# Altium schematic symbol library SCH - MCU - STM32 - ST MICROELECTRONICS STM32WB55VYYX WLCSP100.SchLib: 1 symbol
Pins are listed as number, name and electrical type; pins without a type are passive.

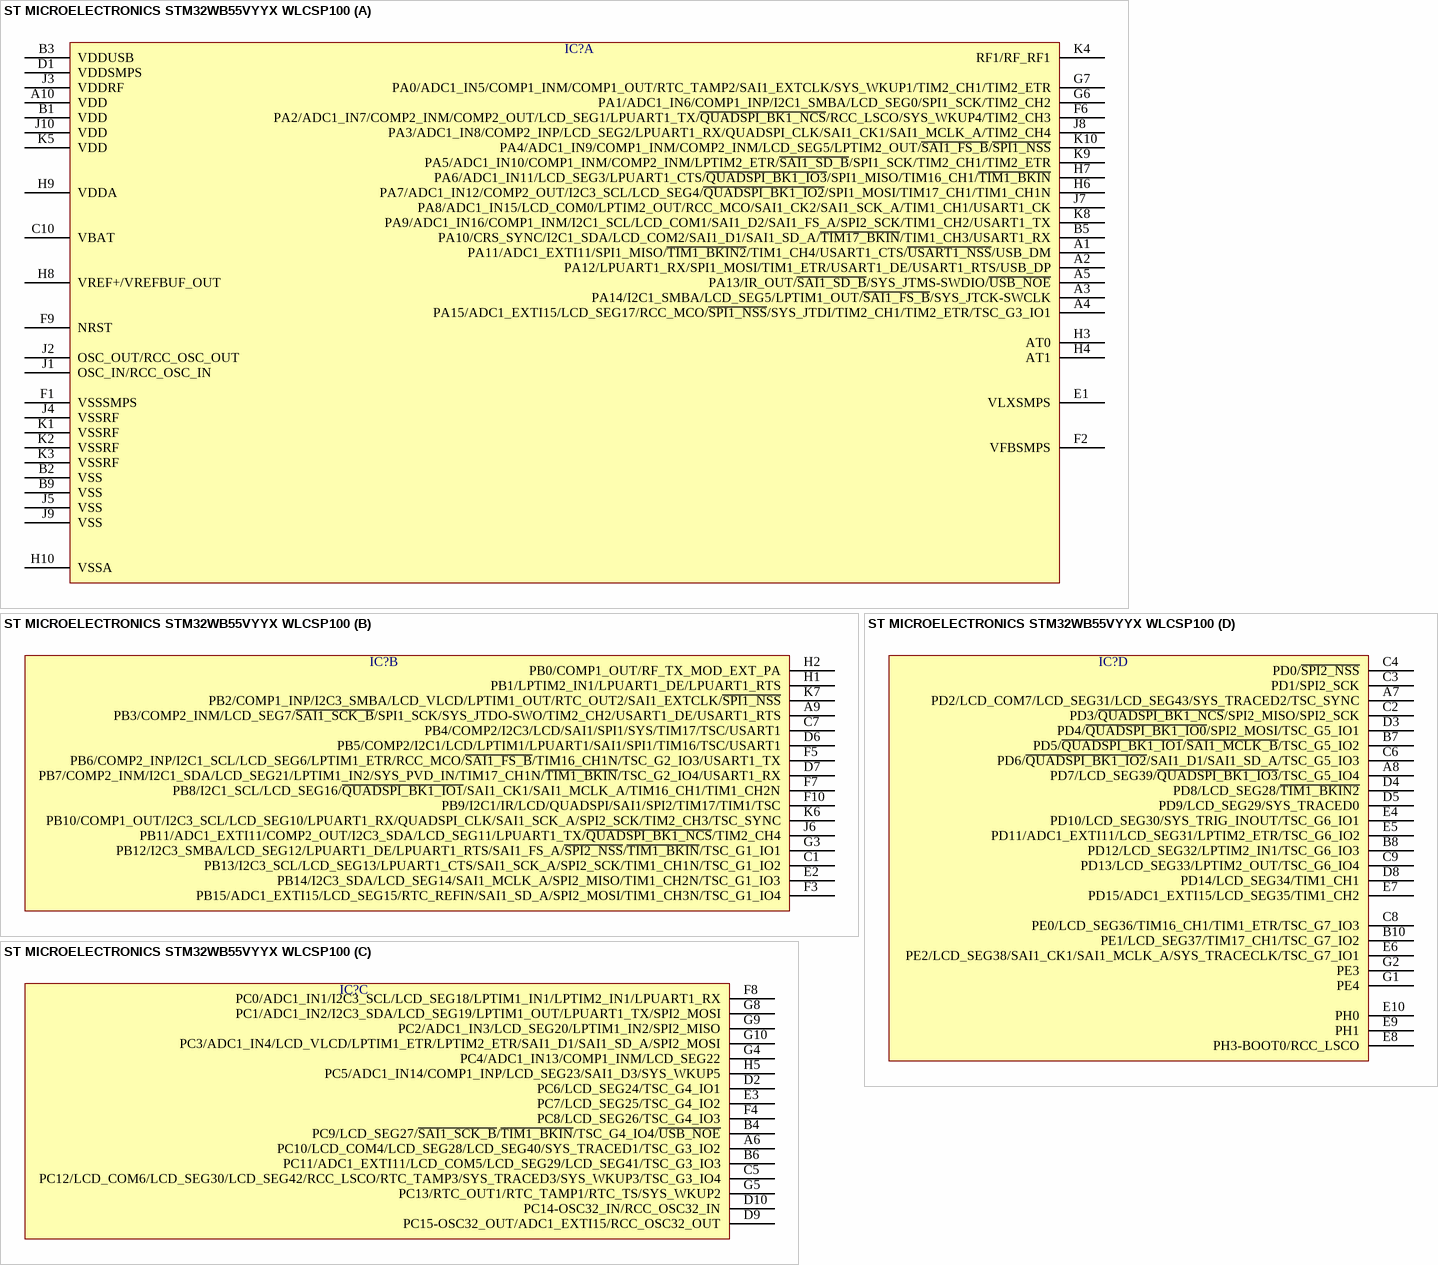
[diagram p0: symbol ST MICROELECTRONICS STM32WB55VYYX WLCSP100]

## ST MICROELECTRONICS STM32WB55VYYX WLCSP100
designator IC?  (value not drawn)
part A pins: A1 PA11/ADC1_EXTI11/SPI1_MISO/~{TIM1_BKIN2}/TIM1_CH4/USART1_CTS/~{USART1_NSS}/USB_DM, A2 PA12/LPUART1_RX/SPI1_MOSI/TIM1_ETR/USART1_DE/USART1_RTS/USB_DP, A3 PA14/I2C1_SMBA/LCD_SEG5/LPTIM1_OUT/~{SAI1_FS_B}/SYS_JTCK-SWCLK, A4 PA15/ADC1_EXTI15/LCD_SEG17/RCC_MCO/~{SPI1_NSS}/SYS_JTDI/TIM2_CH1/TIM2_ETR/TSC_G3_IO1, A5 PA13/IR_OUT/~{SAI1_SD_B}/SYS_JTMS-SWDIO/~{USB_NOE}, A10 VDD, B1 VDD, B2 VSS, B3 VDDUSB, B5 PA10/CRS_SYNC/I2C1_SDA/LCD_COM2/SAI1_D1/SAI1_SD_A/~{TIM17_BKIN}/TIM1_CH3/USART1_RX, B9 VSS, C10 VBAT, D1 VDDSMPS, E1 VLXSMPS, F1 VSSSMPS, F2 VFBSMPS, F6 PA2/ADC1_IN7/COMP2_INM/COMP2_OUT/LCD_SEG1/LPUART1_TX/~{QUADSPI_BK1_NCS}/RCC_LSCO/SYS_WKUP4/TIM2_CH3, F9 NRST, G6 PA1/ADC1_IN6/COMP1_INP/I2C1_SMBA/LCD_SEG0/SPI1_SCK/TIM2_CH2, G7 PA0/ADC1_IN5/COMP1_INM/COMP1_OUT/RTC_TAMP2/SAI1_EXTCLK/SYS_WKUP1/TIM2_CH1/TIM2_ETR, H3 AT0, H4 AT1, H6 PA7/ADC1_IN12/COMP2_OUT/I2C3_SCL/LCD_SEG4/~{QUADSPI_BK1_IO2}/SPI1_MOSI/TIM17_CH1/TIM1_CH1N, H7 PA6/ADC1_IN11/LCD_SEG3/LPUART1_CTS/~{QUADSPI_BK1_IO3}/SPI1_MISO/TIM16_CH1/~{TIM1_BKIN}, H8 VREF+/VREFBUF_OUT, H9 VDDA, H10 VSSA, J1 OSC_IN/RCC_OSC_IN, J2 OSC_OUT/RCC_OSC_OUT, J3 VDDRF, J4 VSSRF, J5 VSS, J7 PA8/ADC1_IN15/LCD_COM0/LPTIM2_OUT/RCC_MCO/SAI1_CK2/SAI1_SCK_A/TIM1_CH1/USART1_CK, J8 PA3/ADC1_IN8/COMP2_INP/LCD_SEG2/LPUART1_RX/QUADSPI_CLK/SAI1_CK1/SAI1_MCLK_A/TIM2_CH4, J9 VSS, J10 VDD, K1 VSSRF, K2 VSSRF, K3 VSSRF, K4 RF1/RF_RF1, K5 VDD, K8 PA9/ADC1_IN16/COMP1_INM/I2C1_SCL/LCD_COM1/SAI1_D2/SAI1_FS_A/SPI2_SCK/TIM1_CH2/USART1_TX, K9 PA5/ADC1_IN10/COMP1_INM/COMP2_INM/LPTIM2_ETR/~{SAI1_SD_B}/SPI1_SCK/TIM2_CH1/TIM2_ETR, K10 PA4/ADC1_IN9/COMP1_INM/COMP2_INM/LCD_SEG5/LPTIM2_OUT/~{SAI1_FS_B}/~{SPI1_NSS}
part B pins: A9 PB3/COMP2_INM/LCD_SEG7/~{SAI1_SCK_B}/SPI1_SCK/SYS_JTDO-SWO/TIM2_CH2/USART1_DE/USART1_RTS, C1 PB13/I2C3_SCL/LCD_SEG13/LPUART1_CTS/SAI1_SCK_A/SPI2_SCK/TIM1_CH1N/TSC_G1_IO2, C7 PB4/COMP2/I2C3/LCD/SAI1/SPI1/SYS/TIM17/TSC/USART1, D6 PB5/COMP2/I2C1/LCD/LPTIM1/LPUART1/SAI1/SPI1/TIM16/TSC/USART1, D7 PB7/COMP2_INM/I2C1_SDA/LCD_SEG21/LPTIM1_IN2/SYS_PVD_IN/TIM17_CH1N/~{TIM1_BKIN}/TSC_G2_IO4/USART1_RX, E2 PB14/I2C3_SDA/LCD_SEG14/SAI1_MCLK_A/SPI2_MISO/TIM1_CH2N/TSC_G1_IO3, F3 PB15/ADC1_EXTI15/LCD_SEG15/RTC_REFIN/SAI1_SD_A/SPI2_MOSI/TIM1_CH3N/TSC_G1_IO4, F5 PB6/COMP2_INP/I2C1_SCL/LCD_SEG6/LPTIM1_ETR/RCC_MCO/~{SAI1_FS_B}/TIM16_CH1N/TSC_G2_IO3/USART1_TX, F7 PB8/I2C1_SCL/LCD_SEG16/~{QUADSPI_BK1_IO1}/SAI1_CK1/SAI1_MCLK_A/TIM16_CH1/TIM1_CH2N, F10 PB9/I2C1/IR/LCD/QUADSPI/SAI1/SPI2/TIM17/TIM1/TSC, G3 PB12/I2C3_SMBA/LCD_SEG12/LPUART1_DE/LPUART1_RTS/SAI1_FS_A/~{SPI2_NSS}/~{TIM1_BKIN}/TSC_G1_IO1, H1 PB1/LPTIM2_IN1/LPUART1_DE/LPUART1_RTS, H2 PB0/COMP1_OUT/RF_TX_MOD_EXT_PA, J6 PB11/ADC1_EXTI11/COMP2_OUT/I2C3_SDA/LCD_SEG11/LPUART1_TX/~{QUADSPI_BK1_NCS}/TIM2_CH4, K6 PB10/COMP1_OUT/I2C3_SCL/LCD_SEG10/LPUART1_RX/QUADSPI_CLK/SAI1_SCK_A/SPI2_SCK/TIM2_CH3/TSC_SYNC, K7 PB2/COMP1_INP/I2C3_SMBA/LCD_VLCD/LPTIM1_OUT/RTC_OUT2/SAI1_EXTCLK/~{SPI1_NSS}
part C pins: A6 PC10/LCD_COM4/LCD_SEG28/LCD_SEG40/SYS_TRACED1/TSC_G3_IO2, B4 PC9/LCD_SEG27/~{SAI1_SCK_B}/~{TIM1_BKIN}/TSC_G4_IO4/~{USB_NOE}, B6 PC11/ADC1_EXTI11/LCD_COM5/LCD_SEG29/LCD_SEG41/TSC_G3_IO3, C5 PC12/LCD_COM6/LCD_SEG30/LCD_SEG42/RCC_LSCO/RTC_TAMP3/SYS_TRACED3/SYS_WKUP3/TSC_G3_IO4, D2 PC6/LCD_SEG24/TSC_G4_IO1, D9 PC15-OSC32_OUT/ADC1_EXTI15/RCC_OSC32_OUT, D10 PC14-OSC32_IN/RCC_OSC32_IN, E3 PC7/LCD_SEG25/TSC_G4_IO2, F4 PC8/LCD_SEG26/TSC_G4_IO3, F8 PC0/ADC1_IN1/I2C3_SCL/LCD_SEG18/LPTIM1_IN1/LPTIM2_IN1/LPUART1_RX, G4 PC4/ADC1_IN13/COMP1_INM/LCD_SEG22, G5 PC13/RTC_OUT1/RTC_TAMP1/RTC_TS/SYS_WKUP2, G8 PC1/ADC1_IN2/I2C3_SDA/LCD_SEG19/LPTIM1_OUT/LPUART1_TX/SPI2_MOSI, G9 PC2/ADC1_IN3/LCD_SEG20/LPTIM1_IN2/SPI2_MISO, G10 PC3/ADC1_IN4/LCD_VLCD/LPTIM1_ETR/LPTIM2_ETR/SAI1_D1/SAI1_SD_A/SPI2_MOSI, H5 PC5/ADC1_IN14/COMP1_INP/LCD_SEG23/SAI1_D3/SYS_WKUP5
part D pins: A7 PD2/LCD_COM7/LCD_SEG31/LCD_SEG43/SYS_TRACED2/TSC_SYNC, A8 PD7/LCD_SEG39/~{QUADSPI_BK1_IO3}/TSC_G5_IO4, B7 PD5/~{QUADSPI_BK1_IO1}/~{SAI1_MCLK_B}/TSC_G5_IO2, B8 PD12/LCD_SEG32/LPTIM2_IN1/TSC_G6_IO3, B10 PE1/LCD_SEG37/TIM17_CH1/TSC_G7_IO2, C2 PD3/~{QUADSPI_BK1_NCS}/SPI2_MISO/SPI2_SCK, C3 PD1/SPI2_SCK, C4 PD0/~{SPI2_NSS}, C6 PD6/~{QUADSPI_BK1_IO2}/SAI1_D1/SAI1_SD_A/TSC_G5_IO3, C8 PE0/LCD_SEG36/TIM16_CH1/TIM1_ETR/TSC_G7_IO3, C9 PD13/LCD_SEG33/LPTIM2_OUT/TSC_G6_IO4, D3 PD4/~{QUADSPI_BK1_IO0}/SPI2_MOSI/TSC_G5_IO1, D4 PD8/LCD_SEG28/~{TIM1_BKIN2}, D5 PD9/LCD_SEG29/SYS_TRACED0, D8 PD14/LCD_SEG34/TIM1_CH1, E4 PD10/LCD_SEG30/SYS_TRIG_INOUT/TSC_G6_IO1, E5 PD11/ADC1_EXTI11/LCD_SEG31/LPTIM2_ETR/TSC_G6_IO2, E6 PE2/LCD_SEG38/SAI1_CK1/SAI1_MCLK_A/SYS_TRACECLK/TSC_G7_IO1, E7 PD15/ADC1_EXTI15/LCD_SEG35/TIM1_CH2, E8 PH3-BOOT0/RCC_LSCO, E9 PH1, E10 PH0, G1 PE4, G2 PE3